# Altium footprint library 主板.PcbLib: 27 footprints (part 2 of 2)
Each footprint in its own frame and in the unit in brackets; x right, y up, seen from the top. Pads: shape width x height; smd on the part's side, far side on the other; paste and mask are expansions set on the pad; w line width, h text height; cw(c..) or ccw(c..) is an arc to the next point about the centre after c.
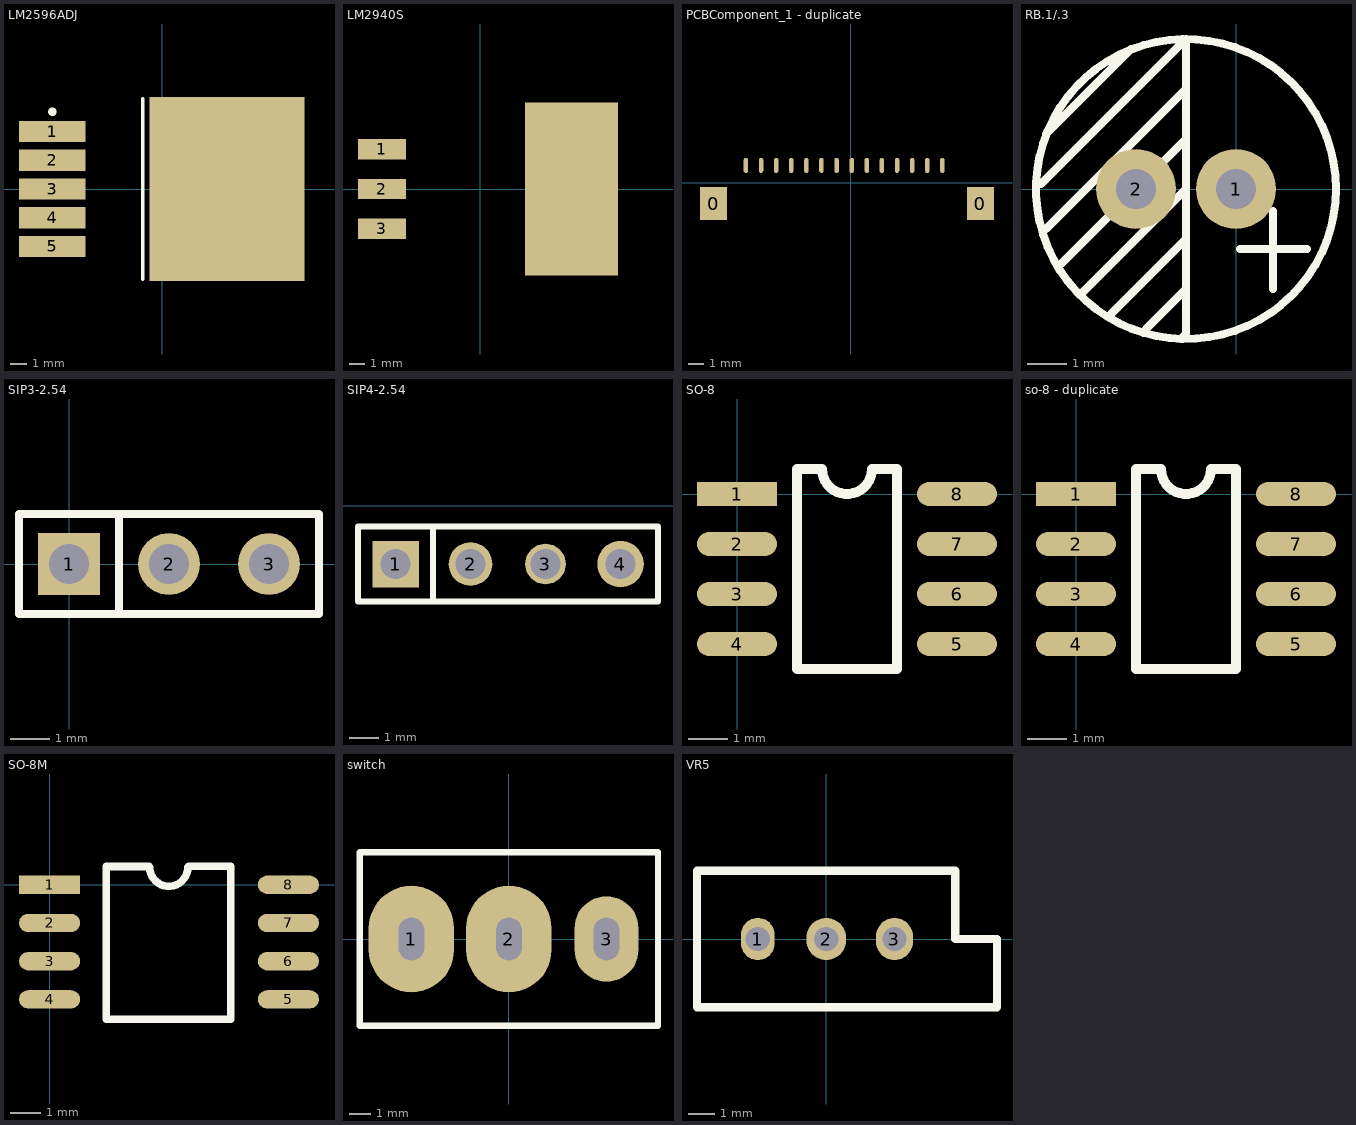
[diagram p1: the footprints below, top view; thin cyan lines are the x and y axes]

## LM2596ADJ [mm]
pads (6):
  rect 3.95x1.25 smd: 1(-6.5,3.404) 2(-6.5,1.702) 3(-6.5,0) 4(-6.5,-1.702) 5(-6.5,-3.404)
  rect 9.2x10.9 smd: ""(3.85,0)
Top Overlay:
  circle w0.25: c-6.5,4.579 r0.125
  lines w0.2: -1.15,-5.35 -1.15,5.35

## LM2940S [mm]
pads (4):
  rect 3.05x1.3 smd: 1(-6.25,2.54) 2(-6.25,0) 3(-6.25,-2.54)
  rect 5.92x11 smd: ""(5.842,0)

## PCBComponent_1 - duplicate [mm]
pads (16):
  rect 1.8x2.2 smd: 0(-9.144,-1.397) 0(8.636,-1.397)
  oval 0.3x1 smd: 1(-6.985,1.143) 2(-5.979,1.143) 3(-4.973,1.143) 4(-3.966,1.143) 5(-2.96,1.143) 6(-1.954,1.143) 7(-0.948,1.143) 8(0.059,1.143) 9(1.065,1.143) 10(2.071,1.143) 11(3.077,1.143) 12(4.084,1.143) 13(5.09,1.143) 14(6.096,1.143)

## RB.1/.3 [mil]
pads (2):
  round 80 hole 40: 1(0,0) 2(-100,0)
Top Overlay:
  circle w8: c-50,0 r150
  lines w8: -195,5 -50,150 -50,-145 -55,-150 ; -190,-40 -50,100 ; -190,55 -105,140 ; -175,-75 -50,50 ; -155,-105 -50,0 ; -125,-125 -50,-50 ; -90,-140 -50,-100 ; 4,-60 71,-60 ; 37,-100 37,-22

## SIP3-2.54 [mil]
pads (3):
  rect 62x62 hole 40: 1(0,0)
  round 62 hole 40: 2(100,0) 3(200,0)
Top Overlay:
  lines w8: 50,-50 50,50 ; -50,-50 -50,50 250,50 250,-50 -50,-50

## SIP4-2.54 [mil]
pads (4):
  rect 62x62 hole 40: 1(79,-78)
  round 58.27 hole 40: 2(179,-78)
  round 54.13 hole 40: 3(279,-78)
  round 62 hole 40: 4(379,-78)
Top Overlay:
  lines w8: 129,-128 129,-28 ; 29,-128 429,-128 429,-28 29,-28 29,-128

## SO-8 [mil]
pads (8):
  rect 80x24 smd: 1(0,0)
  oval 80x24 smd: 2(0,-50) 3(0,-100) 4(0,-150) 5(220,-150) 6(220,-100) 7(220,-50) 8(220,0)
Top Overlay:
  lines w10: 60,-175 60,25 85,25 ccw(c110,25) 135,25 160,25 160,-175 60,-175

## so-8 - duplicate [mil]
pads (8):
  rect 80x24 smd: 1(0,0)
  oval 80x24 smd: 2(0,-50) 3(0,-100) 4(0,-150) 5(220,-150) 6(220,-100) 7(220,-50) 8(220,0)
Top Overlay:
  lines w10: 60,-175 60,25 85,25 ccw(c110,25) 135,25 160,25 160,-175 60,-175

## SO-8M [mil]
pads (8):
  rect 80x24 smd: 1(0,0)
  oval 80x24 smd: 2(0,-50) 3(0,-100) 4(0,-150) 5(312.6,-150) 6(312.6,-100) 7(312.6,-50) 8(312.6,0)
Top Overlay:
  lines w10: 130.06,23.94 74.39,23.94 74.39,-176.06 237.01,-176.06 ; 131,23 ccw(c156,23) 181,23 ; 182,24 237.01,24 ; 236.01,23 237.01,24 ; 237.01,-176 237.01,24

## switch [mm]
pads (3):
  oval 4x5 hole 1.2 slot 2 at 90 deg: 1(-4.572,0) 2(0,0)
  oval 3x4 hole 1.2 slot 2 at 90 deg: 3(4.572,0)
Top Overlay:
  lines w0.3: -6.985,-4.064 6.985,-4.064 6.985,4.064 -6.985,4.064 -6.985,-3.429 -6.985,-4.064

## VR5 [mil]
pads (3):
  oval 49.13x62 hole 35.43: 1(-100,0)
  oval 58.06x62 hole 35.43: 2(0,0)
  oval 54.13x62 hole 35.43: 3(100,0)
Top Overlay:
  lines w12: -188.98,-100 250,-100 250,0 188.98,0 188.98,100 -188.98,100 -188.98,-100